# Altium schematic symbol library ic.SchLib: 105 symbols (part 2 of 2)
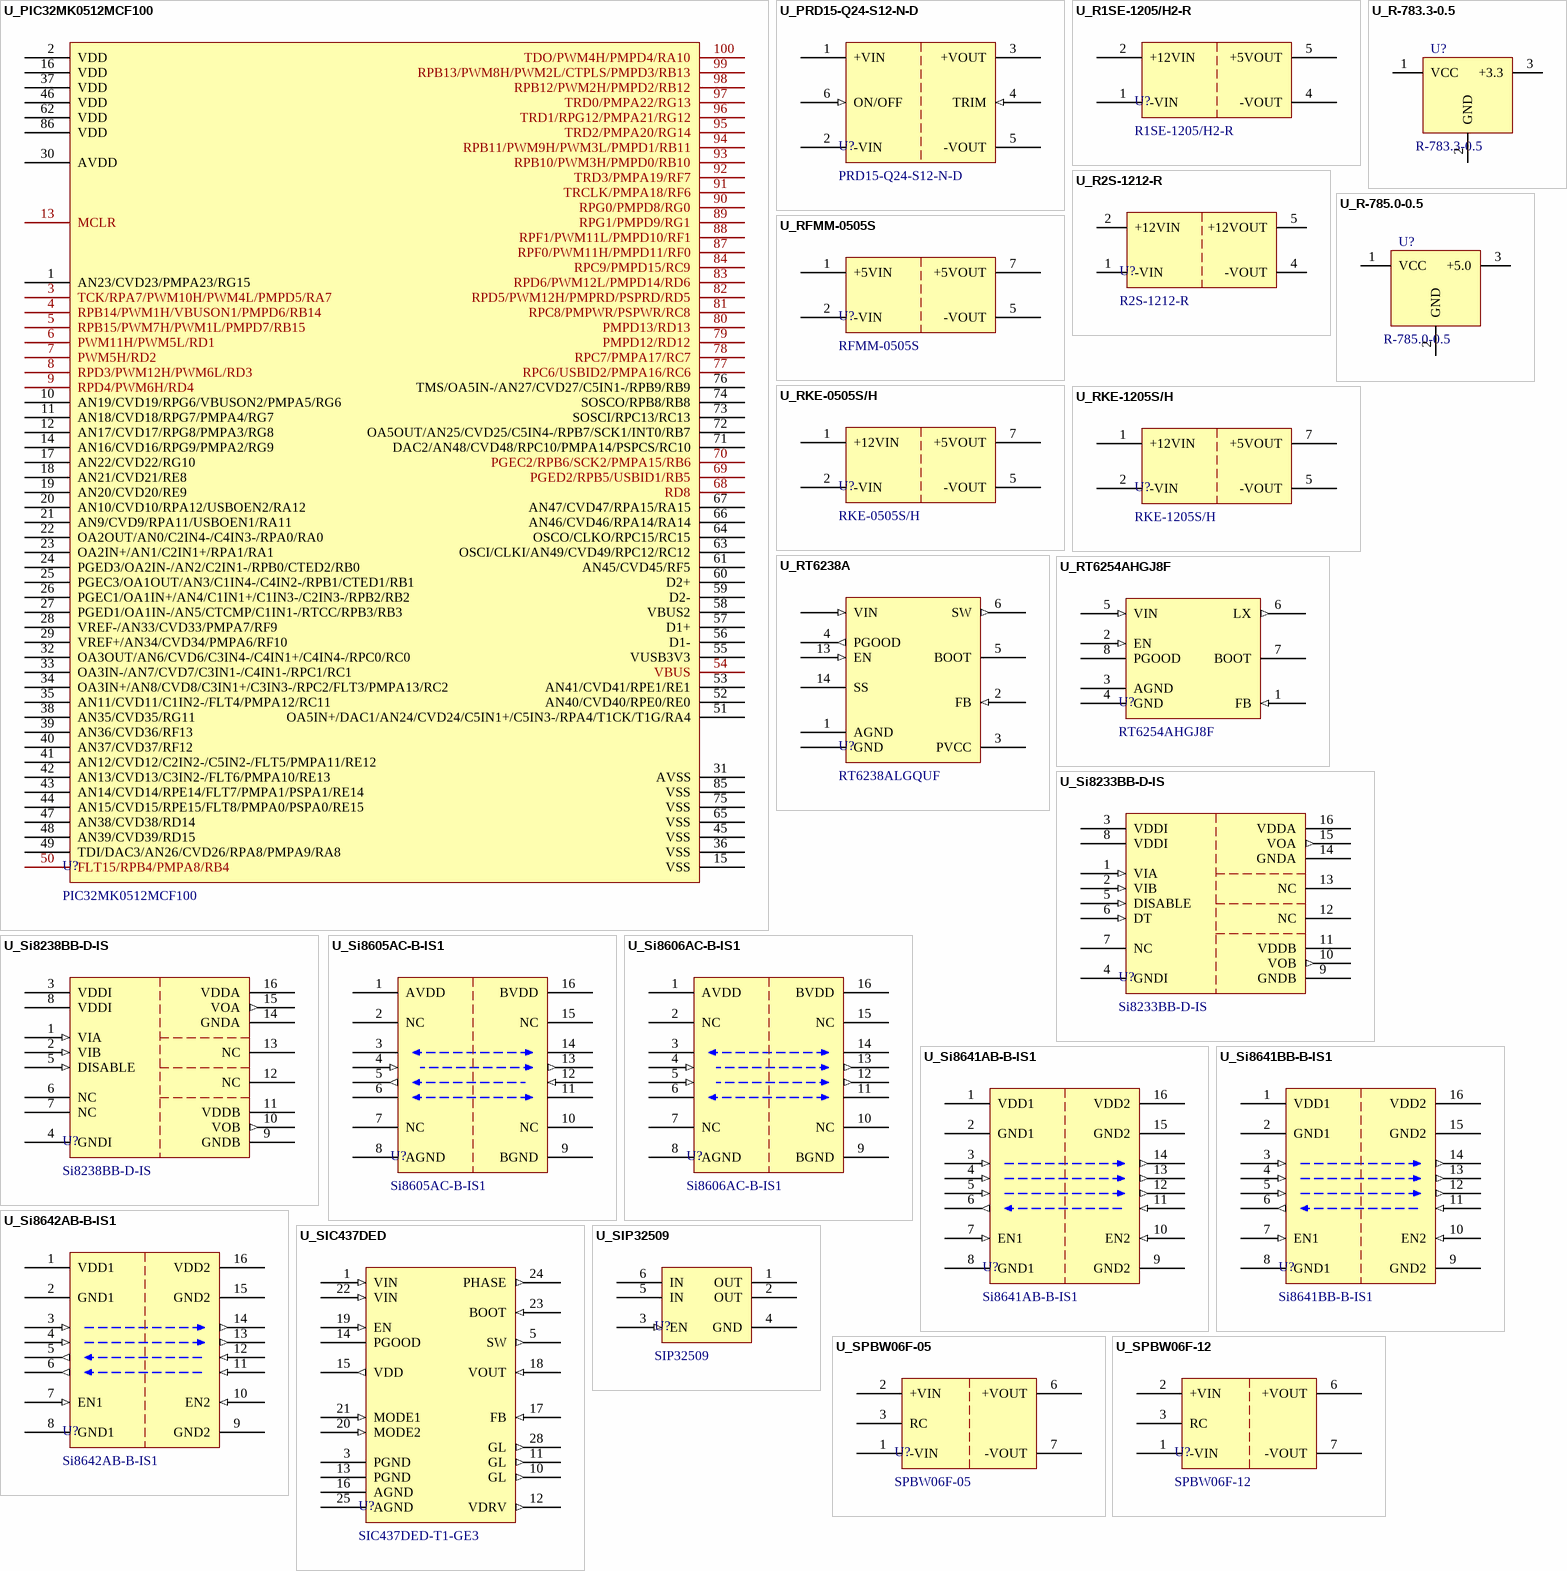
[diagram p6: symbols U_PIC32MK0512MCF100 to U_SPBW06F-12]

## U_RKE-1205S/H
designator U?, comment RKE-1205S/H
Isolated Module DC DC Converter 1 Output 5V 200mA 10.8V - 13.2V Input; Manufacturer: Recom; Manufacturer Part Number: RKE-1205S/H; Supplier 1: Digi-Key; Supplier Part Number 1: 945-2636-5-ND
footprint SIP-7_DCDC_Module_(1,2,5,7) (Only pins 1,2,5,7 present)
pins: 1 +12VIN (power), 2 -VIN (power), 5 -VOUT (power), 7 +5VOUT (power)

## U_RT6238A
designator U?, comment RT6238ALGQUF
Buck Switching Regulator IC Positive Adjustable 0.7V 1 Output 8A 14-UFQFN; Supplier 1: Digi-Key; Supplier Part Number 1: RT6238ALGQUFDKR-ND
footprint UFQFN-14
pins: 1 AGND (power), 2 FB (in), 3 PVCC (power), 4 PGOOD (out), 5 BOOT, 6 SW (out), 7 VIN (in), 8 VIN (in), 9 GND (power), 10 GND (power), 11 GND (power), 12 GND (power), 13 EN (in), 14 SS

## U_RT6254AHGJ8F
designator U?, comment RT6254AHGJ8F
Buck Switching Regulator IC Positive Adjustable 0.6V 1 Output 4A SOT-23-8 Thin, TSOT-23-8; Supplier 1: Digi-Key; Supplier Part Number 1: RT6254AHGJ8FCT-ND
footprint SOT23-8 (SOT23, 0.65mm pitch, 8 pins)
pins: 1 FB (in), 2 EN (in), 3 AGND (power), 4 GND (power), 5 VIN (in), 6 LX (out), 7 BOOT, 8 PGOOD (oc)

## U_Si8233BB-D-IS
designator U?, comment Si8233BB-D-IS
4A Gate Driver Capacitive Coupling 2500Vrms 2 Channel 16-SOIC; Manufacturer: Silicon Labs; Number of Outputs: 2; Pulse Width Distortion (PWD): 5.6ns; Max Power Dissipation: 1.2W; Min Supply Voltage: 4.5V; Turn-On Delay Time: 60ns; Low Level Output Current: 2A; Fall Time: 12ns; Max Supply Voltage: 5.5V; Output Current: 6mA; Operating Supply Current: 3.5mA; Number of Drivers: 2; Manufacturer Part Number: SI8233BB-D-IS; Min Operating Temperature: -40°C; Number of Channels: 2; High Level Output Current: 4A; Max Operating Temperature: 125°C; Rise Time: 12ns; Max Output Current: 4A; Propagation Delay: 60ns; Turn-Off Delay Time: 60ns; Supplier 1: Digi-Key; Supplier Part Number 1: SI8233BB-D-IS-ND
footprint SOIC-16_W300 (Wide SOIC)
pins: 1 VIA (in), 2 VIB (in), 3 VDDI (power), 4 GNDI (power), 5 DISABLE (in), 6 DT (in), 7 NC, 8 VDDI (power), 9 GNDB (power), 10 VOB (out), 11 VDDB (power), 12 NC, 13 NC, 14 GNDA (power), 15 VOA (out), 16 VDDA (power)

## U_Si8238BB-D-IS
designator U?, comment Si8238BB-D-IS
4A Gate Driver Capacitive Coupling 2500Vrms 2 Channel 16-SOIC; Manufacturer: Silicon Labs; Number of Outputs: 2; Pulse Width Distortion (PWD): 5.6ns; Max Power Dissipation: 1.2W; Min Supply Voltage: 2.7V; Turn-On Delay Time: 60ns; Low Level Output Current: 2A; Fall Time: 12ns; Max Supply Voltage: 5.5V; Output Current: 6mA; Operating Supply Current: 3.5mA; Number of Drivers: 2; Manufacturer Part Number: SI8238BB-D-IS; Min Operating Temperature: -40°C; Number of Channels: 2; High Level Output Current: 4A; Max Operating Temperature: 125°C; Rise Time: 12ns; Max Output Current: 4A; Propagation Delay: 60ns; Turn-Off Delay Time: 60ns; Supplier 1: Digi-Key; Supplier Part Number 1: SI8238BB-D-IS1-ND
footprint SOIC-16 (SOIC 16 pin)
pins: 1 VIA (in), 2 VIB (in), 3 VDDI (power), 4 GNDI (power), 5 DISABLE (in), 6 NC, 7 NC, 8 VDDI (power), 9 GNDB (power), 10 VOB (out), 11 VDDB (power), 12 NC, 13 NC, 14 GNDA (power), 15 VOA (out), 16 VDDA (power)

## U_Si8605AC-B-IS1
designator U?, comment Si8605AC-B-IS1
I²C Digital Isolator 3750Vrms 4 Channel 35kV/µs CMTI 16-SOIC (0.154", 3.90mm Width); Manufacturer: Silicon Labs; Data Rate: 1.7Mbps; Propagation Delay: 55ns; Channel Type: Bidirectional; Polarity: Unidirectional,Bidirectional; Max Power Dissipation: 275mW; Min Supply Voltage: 3V; Max Supply Voltage: 5.5V; Rise Time: 4ns; Operating Supply Current: 7.2mA; Max Input Current: 10.5mA; Supplier 1: Digi-Key; Manufacturer Part Number: SI8605AC-B-IS1; Min Operating Temperature: -40°C; Max Operating Temperature: 125°C; Supplier Part Number 1: 336-2052-5-ND
footprint SOIC-16 (SOIC 16 pin)
pins: 1 AVDD (power), 2 NC, 3 ASDA (oc), 4 ADIN (in), 5 ADOUT (out), 6 ASCL (oc), 7 NC, 8 AGND (power), 9 BGND (power), 10 NC, 11 BSCL (oc), 12 BDIN (in), 13 BDOUT (out), 14 BSDA (oc), 15 NC, 16 BVDD (power)

## U_Si8606AC-B-IS1
designator U?, comment Si8606AC-B-IS1
I²C Digital Isolator 3750Vrms 4 Channel  35kV/µs CMTI 16-SOIC (0.154", 3.90mm Width); Manufacturer: Silicon Labs; Data Rate: 1.7Mbps; Propagation Delay: 55ns; Channel Type: Bidirectional; Polarity: Unidirectional,Bidirectional; Max Power Dissipation: 275mW; Min Supply Voltage: 3V; Max Supply Voltage: 5.5V; Rise Time: 4ns; Operating Supply Current: 7.2mA; Max Input Current: 10.5mA; Manufacturer Part Number: SI8606AC-B-IS1; Min Operating Temperature: -40°C; Max Operating Temperature: 125°C; Supplier 1: Digi-Key; Supplier Part Number 1: 336-2054-5-ND
footprint SOIC-16 (SOIC 16 pin)
pins: 1 AVDD (power), 2 NC, 3 ASDA (oc), 4 ADIN1 (in), 5 ADIN2 (in), 6 ASCL (oc), 7 NC, 8 AGND (power), 9 BGND (power), 10 NC, 11 BSCL (oc), 12 BDOUT2 (out), 13 BDOUT1 (out), 14 BSDA (oc), 15 NC, 16 BVDD (power)

## U_Si8641AB-B-IS1
designator U?, comment Si8641AB-B-IS1
General Purpose Digital Isolator 2500Vrms 4 Channel 1Mbps 35kV/µs CMTI 16-SOIC (0.154", 3.90mm Width); Manufacturer: Silicon Labs; Max Power Dissipation: 275mW; Min Supply Voltage: 2.7V; Max Supply Voltage: 5.5V; Propagation Delay: 35ns; Channel Type: Unidirectional; Rise Time: 4ns; Max Input Current: 7.8mA; Operating Supply Current: 3.5mA; Pulse Width Distortion (PWD): 25ns; Number of Channels: 4; Supplier 1: Digi-Key; Supplier Part Number 1: SI8641AB-B-IS1-ND; Min Operating Temperature: -40°C; Max Operating Temperature: 125°C; Data Rate: 1Mbps; Manufacturer Part Number: SI8641AB-B-IS1
footprint SOIC-16 (SOIC 16 pin)
pins: 1 VDD1 (power), 2 GND1 (power), 3 A1 (in), 4 A2 (in), 5 A3 (in), 6 A4 (out), 7 EN1 (in), 8 GND1 (power), 9 GND2 (power), 10 EN2 (in), 11 B4 (in), 12 B3 (out), 13 B2 (out), 14 B1 (out), 15 GND2 (power), 16 VDD2 (power)

## U_Si8641BB-B-IS1
designator U?, comment Si8641BB-B-IS1
General Purpose Digital Isolator 2500Vrms 4 Channel 150Mbps 35kV/µs CMTI 16-SOIC (0.154", 3.90mm Width); Manufacturer: Silicon Labs; Max Power Dissipation: 275mW; Min Supply Voltage: 2.7V; Max Supply Voltage: 5.5V; Propagation Delay: 13ns; Channel Type: Unidirectional; Rise Time: 2.5ns; Max Input Current: 7.8mA; Operating Supply Current: 3.5mA; Pulse Width Distortion (PWD): 4.5ns; Number of Channels: 4; Min Operating Temperature: -40°C; Max Operating Temperature: 125°C; Data Rate: 150Mbps; Manufacturer Part Number: SI8641BB-B-IS1; Supplier 1: Digi-Key; Supplier Part Number 1: 336-2566-ND
footprint SOIC-16 (SOIC 16 pin)
pins: 1 VDD1 (power), 2 GND1 (power), 3 A1 (in), 4 A2 (in), 5 A3 (in), 6 A4 (out), 7 EN1 (in), 8 GND1 (power), 9 GND2 (power), 10 EN2 (in), 11 B4 (in), 12 B3 (out), 13 B2 (out), 14 B1 (out), 15 GND2 (power), 16 VDD2 (power)

## U_Si8642AB-B-IS1
designator U?, comment Si8642AB-B-IS1
General Purpose Digital Isolator 2500Vrms 4 Channel 1Mbps 35kV/µs CMTI 16-SOIC (0.154", 3.90mm Width); Manufacturer: Silicon Labs; Max Supply Voltage: 5.5V; Channel Type: Unidirectional; Pulse Width Distortion (PWD): 25ns; Max Power Dissipation: 275mW; Min Supply Voltage: 2.7V; Number of Channels: 4; Propagation Delay: 35ns; Max Input Current: 6.6mA; Rise Time: 4ns; Operating Supply Current: 3.6mA; Supplier 1: Digi-Key; Supplier Part Number 1: SI8642AB-B-IS1-ND; Max Operating Temperature: 125°C; Min Operating Temperature: -40°C; Data Rate: 1Mbps; Manufacturer Part Number: Si8642AB-B-IS1
footprint SOIC-16 (SOIC 16 pin)
pins: 1 VDD1 (power), 2 GND1 (power), 3 A1 (in), 4 A2 (in), 5 A3 (out), 6 A4 (out), 7 EN1 (in), 8 GND1 (power), 9 GND2 (power), 10 EN2 (in), 11 B4 (in), 12 B3 (in), 13 B2 (out), 14 B1 (out), 15 GND2 (power), 16 VDD2 (power)

## U_SIC437DED
designator U?, comment SIC437DED-T1-GE3
Buck Switching Regulator IC Positive Adjustable 0.6V 1 Output 12A 24-PowerWFQFN; Manufacturer: Vishay; Supplier 1: Digi-Key; Supplier 2: Mouser; Supplier Part Number 1: SIC437DED-T1-GE3CT-ND; Supplier Part Number 2: 78-SIC437DED-T1-GE3; Manufacturer Part Number: SIC437DED-T1-GE3
footprint U_MLP44-24L (Vishay Siliconix SiC437, U_SiC438 series DCDC converters)
pins: 1 VIN (in), 3 PGND (power), 5 SW (out), 10 GL (out), 11 GL (out), 12 VDRV (out), 13 PGND (power), 14 PGOOD (oc), 15 VDD (out), 16 AGND (power), 17 FB (in), 18 VOUT (in), 19 EN (in), 20 MODE2 (in), 21 MODE1 (in), 22 VIN (in), 23 BOOT (in), 24 PHASE (out), 25 AGND (power), 28 GL (out)

## U_SIP32509
designator U?, comment SIP32509
IC LOAD SWITCH; Supplier 1: Digi-Key; Supplier Part Number 1: SIP32509DT-T1-GE3DKR-ND
footprint SOT23-6 (Footprint not found)
pins: 1 OUT (power), 2 OUT (power), 3 EN (in), 4 GND (power), 5 IN (power), 6 IN (power)

## U_SPBW06F-05
designator U?, comment SPBW06F-05
Isolated Module DC DC Converter 1 Output 5V 1.2A 9V - 36V Input; Manufacturer: Mean Well; Voltage - Isolation: 1500V; Efficiency: 85%; Manufacturer Part Number: SPBW06F-05; Voltage - Input (Min): 9V; Voltage - Input (Max): 36V; Voltage - Output: 5V; Current - Output (Max): 1.2A; Operating Temperature: -40°C ~ 85°C; Supplier 1: Digi-Key; Supplier Part Number 1: 1866-4810-ND
footprint SIP-8_DCDC_Module
pins: 1 -VIN (power), 2 +VIN (power), 3 RC, 6 +VOUT (power), 7 -VOUT (power)

## U_SPBW06F-12
designator U?, comment SPBW06F-12
Isolated Module DC DC Converter 1 Output 12V 500mA 9V - 36V Input; Manufacturer: Mean Well; Voltage - Isolation: 1500V; Efficiency: 88%; Manufacturer Part Number: SPBW06F-12; Supplier 1: Digi-Key; Supplier Part Number 1: 1866-4811-ND; Voltage - Input (Min): 9V; Voltage - Input (Max): 36V; Voltage - Output: 12V; Current - Output (Max): 500mA; Operating Temperature: -40°C ~ 85°C
footprint SIP-8_DCDC_Module
pins: 1 -VIN (power), 2 +VIN (power), 3 RC, 6 +VOUT (power), 7 -VOUT (power)

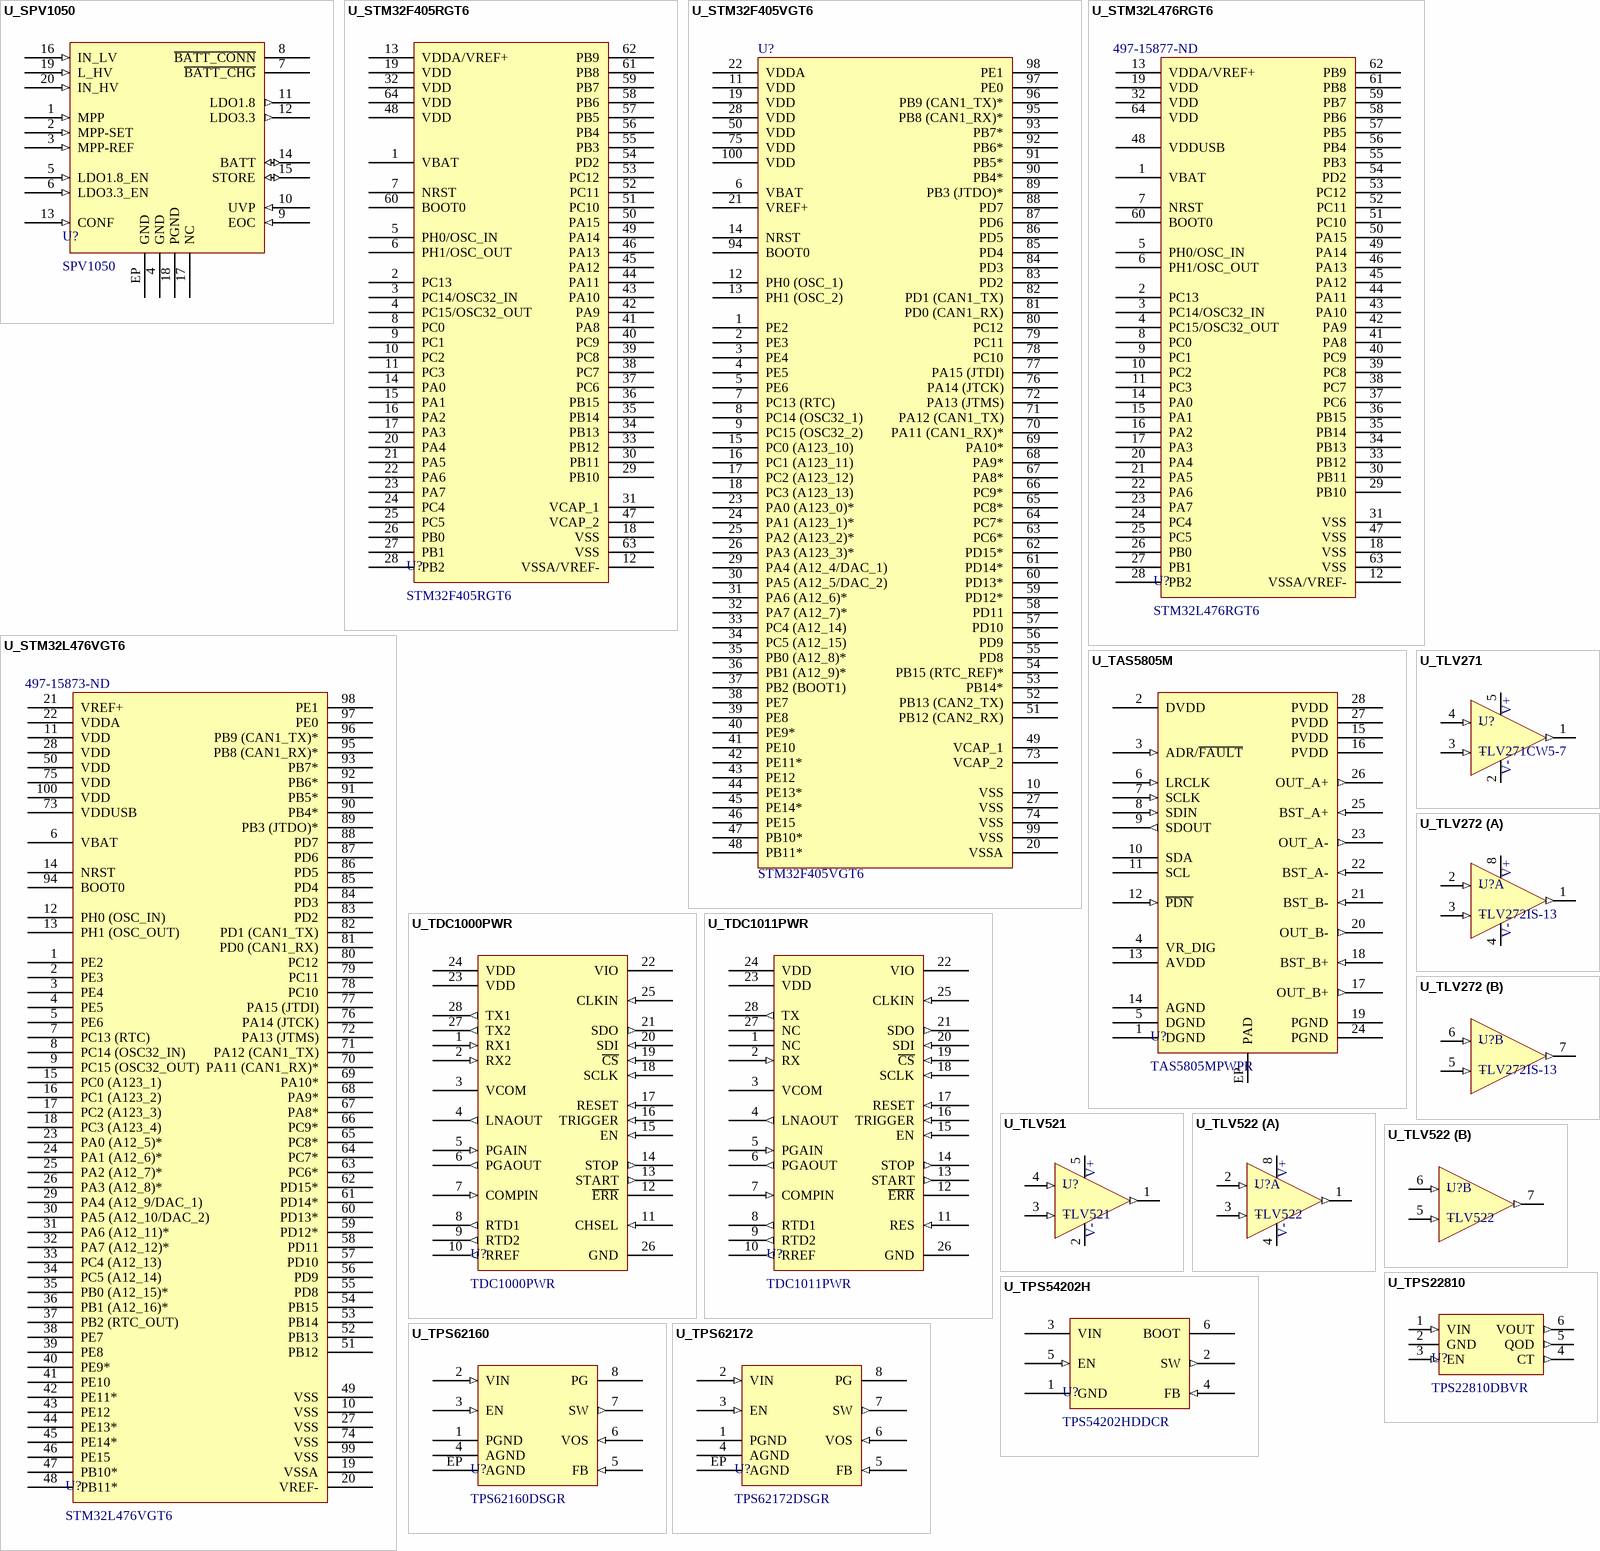
[diagram p4: symbols U_SPV1050 to U_TPS62172]

## U_SPV1050
designator U?, comment SPV1050
Charger IC Multi-Chemistry 20-VFQFPN (3x3); Manufacturer: STMicroelectronics; Manufacturer Part Number: SPV1050TTR; Max Charge Current: 70mA; Max Supply Voltage: 18V; Battery Pack Voltage: 5.3V; Max Operating Temperature: 85°C; Min Operating Temperature: -40°C; Supplier 1: Digi-Key; Supplier 2: Mouser; Supplier Part Number 1: 497-15978-1-ND; Supplier Part Number 2: 511-SPV1050TTR
footprint VFQFN-20-EP_3x3mm (20 pin QFN, 0.65mm pitch)
pins: 1 MPP (in), 2 MPP-SET (in), 3 MPP-REF (in), 4 GND (power), 5 LDO1.8_EN (in), 6 LDO3.3_EN (in), 7 ~{BATT_CHG} (oc), 8 ~{BATT_CONN} (oc), 9 EOC (in), 10 UVP (in), 11 LDO1.8 (out), 12 LDO3.3 (out), 13 CONF (in), 14 BATT (io), 15 STORE (io), 16 IN_LV (in), 17 NC, 18 PGND (power), 19 L_HV (in), 20 IN_HV (in), EP GND (power)

## U_STM32F405RGT6
designator U?, comment STM32F405RGT6
IC MCU 32BIT 1MB FLASH 64LQFP; Manufacturer: STMicroelectronics; SVP Creator: Mitchell Rogalsky; Manufacturer PN: STM32F405RGT6; Supplier: Digikey; Supplier PN: 497-11767-ND; Supplier 1: Digi-Key; Supplier Part Number 1: 497-11767-ND
footprint LQFP-64 (TSQFP, 64-Leads, Body 12.0x12.0mm (max), Pitch 0.50mm, IPC Medium Density)
pins: 1 VBAT, 2 PC13, 3 PC14/OSC32_IN, 4 PC15/OSC32_OUT, 5 PH0/OSC_IN, 6 PH1/OSC_OUT, 7 NRST, 8 PC0, 9 PC1, 10 PC2, 11 PC3, 12 VSSA/VREF-, 13 VDDA/VREF+, 14 PA0, 15 PA1, 16 PA2, 17 PA3, 18 VSS, 19 VDD, 20 PA4, 21 PA5, 22 PA6, 23 PA7, 24 PC4, 25 PC5, 26 PB0, 27 PB1, 28 PB2, 29 PB10, 30 PB11, 31 VCAP_1, 32 VDD, 33 PB12, 34 PB13, 35 PB14, 36 PB15, 37 PC6, 38 PC7, 39 PC8, 40 PC9, 41 PA8, 42 PA9, 43 PA10, 44 PA11, 45 PA12, 46 PA13, 47 VCAP_2, 48 VDD, 49 PA14, 50 PA15, 51 PC10, 52 PC11, 53 PC12, 54 PD2, 55 PB3, 56 PB4, 57 PB5, 58 PB6, 59 PB7, 60 BOOT0, 61 PB8, 62 PB9, 63 VSS, 64 VDD

## U_STM32F405VGT6
designator U?, comment STM32F405VGT6
IC MCU 32BIT 1MB FLASH 100LQFP; Manufacturer: STMicroelectronics; Part Number: STM32F405VGT6; Supplier 1: Digi-Key; Supplier Part Number 1: 497-11910-ND
footprint LQFP-100 (100 pin LQFP, 0.5mm pitch)
pins: 1 PE2, 2 PE3, 3 PE4, 4 PE5, 5 PE6, 6 VBAT, 7 PC13 (RTC), 8 PC14 (OSC32_1), 9 PC15 (OSC32_2), 10 VSS, 11 VDD, 12 PH0 (OSC_1), 13 PH1 (OSC_2), 14 NRST, 15 PC0 (A123_10), 16 PC1 (A123_11), 17 PC2 (A123_12), 18 PC3 (A123_13), 19 VDD, 20 VSSA, 21 VREF+, 22 VDDA, 23 PA0 (A123_0)*, 24 PA1 (A123_1)*, 25 PA2 (A123_2)*, 26 PA3 (A123_3)*, 27 VSS, 28 VDD, 29 PA4 (A12_4/DAC_1), 30 PA5 (A12_5/DAC_2), 31 PA6 (A12_6)*, 32 PA7 (A12_7)*, 33 PC4 (A12_14), 34 PC5 (A12_15), 35 PB0 (A12_8)*, 36 PB1 (A12_9)*, 37 PB2 (BOOT1), 38 PE7, 39 PE8, 40 PE9*, 41 PE10, 42 PE11*, 43 PE12, 44 PE13*, 45 PE14*, 46 PE15, 47 PB10*, 48 PB11*, 49 VCAP_1, 50 VDD, 51 PB12 (CAN2_RX), 52 PB13 (CAN2_TX), 53 PB14*, 54 PB15 (RTC_REF)*, 55 PD8, 56 PD9, 57 PD10, 58 PD11, 59 PD12*, 60 PD13*, 61 PD14*, 62 PD15*, 63 PC6*, 64 PC7*, 65 PC8*, 66 PC9*, 67 PA8*, 68 PA9*, 69 PA10*, 70 PA11 (CAN1_RX)*, 71 PA12 (CAN1_TX), 72 PA13 (JTMS), 73 VCAP_2, 74 VSS, 75 VDD, 76 PA14 (JTCK), 77 PA15 (JTDI), 78 PC10, 79 PC11, 80 PC12, 81 PD0 (CAN1_RX), 82 PD1 (CAN1_TX), 83 PD2, 84 PD3, 85 PD4, 86 PD5, 87 PD6, 88 PD7, 89 PB3 (JTDO)*, 90 PB4*, 91 PB5*, 92 PB6*, 93 PB7*, 94 BOOT0, 95 PB8 (CAN1_RX)*, 96 PB9 (CAN1_TX)*, 97 PE0, 98 PE1, 99 VSS, 100 VDD

## U_STM32L476RGT6
designator U?, comment STM32L476RGT6  Supplier Part Number 1: 497-15877-ND
IC MCU 32BIT 1MB FLASH 64LQFP; Manufacturer: STMicroelectronics; Manufacturer PN: STM32L405RGT6; SVP Creator: Spencer Berglund; Supplier 1: Digi-Key
footprint LQFP-64 (TSQFP, 64-Leads, Body 12.0x12.0mm (max), Pitch 0.50mm, IPC Medium Density)
pins: 1 VBAT, 2 PC13, 3 PC14/OSC32_IN, 4 PC15/OSC32_OUT, 5 PH0/OSC_IN, 6 PH1/OSC_OUT, 7 NRST, 8 PC0, 9 PC1, 10 PC2, 11 PC3, 12 VSSA/VREF-, 13 VDDA/VREF+, 14 PA0, 15 PA1, 16 PA2, 17 PA3, 18 VSS, 19 VDD, 20 PA4, 21 PA5, 22 PA6, 23 PA7, 24 PC4, 25 PC5, 26 PB0, 27 PB1, 28 PB2, 29 PB10, 30 PB11, 31 VSS, 32 VDD, 33 PB12, 34 PB13, 35 PB14, 36 PB15, 37 PC6, 38 PC7, 39 PC8, 40 PC9, 41 PA8, 42 PA9, 43 PA10, 44 PA11, 45 PA12, 46 PA13, 47 VSS, 48 VDDUSB, 49 PA14, 50 PA15, 51 PC10, 52 PC11, 53 PC12, 54 PD2, 55 PB3, 56 PB4, 57 PB5, 58 PB6, 59 PB7, 60 BOOT0, 61 PB8, 62 PB9, 63 VSS, 64 VDD

## U_STM32L476VGT6
designator U?, comment STM32L476VGT6  Supplier Part Number 1: 497-15873-ND
IC MCU 32BIT 1MB FLASH 100LQFP; Manufacturer: STMicroelectronics; SVP Creator: Spencer Berglund; Manufacturer PN: STM32L476VGT6; Supplier 1: Digi-Key
footprint LQFP-100 (100 pin LQFP, 0.5mm pitch)
pins: 1 PE2, 2 PE3, 3 PE4, 4 PE5, 5 PE6, 6 VBAT, 7 PC13 (RTC), 8 PC14 (OSC32_IN), 9 PC15 (OSC32_OUT), 10 VSS, 11 VDD, 12 PH0 (OSC_IN), 13 PH1 (OSC_OUT), 14 NRST, 15 PC0 (A123_1), 16 PC1 (A123_2), 17 PC2 (A123_3), 18 PC3 (A123_4), 19 VSSA, 20 VREF-, 21 VREF+, 22 VDDA, 23 PA0 (A12_5)*, 24 PA1 (A12_6)*, 25 PA2 (A12_7)*, 26 PA3 (A12_8)*, 27 VSS, 28 VDD, 29 PA4 (A12_9/DAC_1), 30 PA5 (A12_10/DAC_2), 31 PA6 (A12_11)*, 32 PA7 (A12_12)*, 33 PC4 (A12_13), 34 PC5 (A12_14), 35 PB0 (A12_15)*, 36 PB1 (A12_16)*, 37 PB2 (RTC_OUT), 38 PE7, 39 PE8, 40 PE9*, 41 PE10, 42 PE11*, 43 PE12, 44 PE13*, 45 PE14*, 46 PE15, 47 PB10*, 48 PB11*, 49 VSS, 50 VDD, 51 PB12, 52 PB13, 53 PB14, 54 PB15, 55 PD8, 56 PD9, 57 PD10, 58 PD11, 59 PD12*, 60 PD13*, 61 PD14*, 62 PD15*, 63 PC6*, 64 PC7*, 65 PC8*, 66 PC9*, 67 PA8*, 68 PA9*, 69 PA10*, 70 PA11 (CAN1_RX)*, 71 PA12 (CAN1_TX), 72 PA13 (JTMS), 73 VDDUSB, 74 VSS, 75 VDD, 76 PA14 (JTCK), 77 PA15 (JTDI), 78 PC10, 79 PC11, 80 PC12, 81 PD0 (CAN1_RX), 82 PD1 (CAN1_TX), 83 PD2, 84 PD3, 85 PD4, 86 PD5, 87 PD6, 88 PD7, 89 PB3 (JTDO)*, 90 PB4*, 91 PB5*, 92 PB6*, 93 PB7*, 94 BOOT0, 95 PB8 (CAN1_RX)*, 96 PB9 (CAN1_TX)*, 97 PE0, 98 PE1, 99 VSS, 100 VDD

## U_TAS5805M
designator U?, comment TAS5805MPWPR
Amplifier IC 1-Channel (Mono) or 2-Channel (Stereo) Class D 28-HTSSOP; Manufacturer: Texas Instruments; Supplier 1: Digi-Key; Supplier 2: Arrow; Supplier Part Number 1: 296-51627-1-ND; Supplier Part Number 2: TAS5805MPWPR; Manufacturer Part Number: TAS5805MPWPR
footprint TSSOP-28-EP (0.65mm pitch TSSOP with exposed pad)
pins: 1 DGND (power), 2 DVDD (power), 3 ADR/~{FAULT} (in), 4 VR_DIG (power), 5 DGND (power), 6 LRCLK (in), 7 SCLK (in), 8 SDIN (in), 9 SDOUT (out), 10 SDA (oc), 11 SCL (oc), 12 ~{PDN} (in), 13 AVDD (power), 14 AGND (power), 15 PVDD (power), 16 PVDD (power), 17 OUT_B+ (out), 18 BST_B+ (in), 19 PGND (power), 20 OUT_B- (out), 21 BST_B- (in), 22 BST_A- (in), 23 OUT_A- (out), 24 PGND (power), 25 BST_A+ (in), 26 OUT_A+ (out), 27 PVDD (power), 28 PVDD (power), EP PAD (power)

## U_TDC1000PWR
designator U?, comment TDC1000PWR
IC AFE ULTRA SENSING 28TSSOP; Manufacturer: Texas Instruments; Interface: SPI; Max Supply Voltage: 5.5V; Min Supply Voltage: 2.7V; Operating Supply Current: 2.8mA; Manufacturer Part Number: TDC1000PWR; Max Operating Temperature: 125°C; Min Operating Temperature: -40°C; Supplier 1: Digi-Key; Supplier 2: Mouser; Supplier Part Number 1: 296-38823-1-ND; Supplier Part Number 2: 595-TDC1000PWR
footprint TSSOP-28 (0.65mm pitch TSSOP)
pins: 1 RX1 (in), 2 RX2 (in), 3 VCOM (power), 4 LNAOUT (out), 5 PGAIN (in), 6 PGAOUT (out), 7 COMPIN (in), 8 RTD1 (out), 9 RTD2 (out), 10 RREF (out), 11 CHSEL (in), 12 ~{ERR} (oc), 13 START (out), 14 STOP (out), 15 EN (in), 16 TRIGGER (in), 17 RESET (in), 18 SCLK (in), 19 ~{CS} (in), 20 SDI (in), 21 SDO (out), 22 VIO (power), 23 VDD (power), 24 VDD (power), 25 CLKIN (in), 26 GND (power), 27 TX2 (out), 28 TX1 (out)

## U_TDC1011PWR
designator U?, comment TDC1011PWR
IC AFE ULTRA SENSING 28TSSOP; Manufacturer: Texas Instruments; Interface: SPI; Max Supply Voltage: 5.5V; Min Supply Voltage: 2.7V; Operating Supply Current: 2.8mA; Supplier 1: Digi-Key; Supplier 2: Mouser; Supplier Part Number 1: 296-42461-1-ND; Supplier Part Number 2: 595-TDC1011PWR; Manufacturer Part Number: TDC1011PWR; Max Operating Temperature: 125°C; Min Operating Temperature: -40°C
footprint TSSOP-28 (0.65mm pitch TSSOP)
pins: 1 NC, 2 RX (in), 3 VCOM (power), 4 LNAOUT (out), 5 PGAIN (in), 6 PGAOUT (out), 7 COMPIN (in), 8 RTD1 (out), 9 RTD2 (out), 10 RREF (out), 11 RES (in), 12 ~{ERR} (oc), 13 START (out), 14 STOP (out), 15 EN (in), 16 TRIGGER (in), 17 RESET (in), 18 SCLK (in), 19 ~{CS} (in), 20 SDI (in), 21 SDO (out), 22 VIO (power), 23 VDD (power), 24 VDD (power), 25 CLKIN (in), 26 GND (power), 27 NC, 28 TX (out)

## U_TLV271
designator U?, comment TLV271CW5-7
CMOS Amplifier 1 Circuit Rail-to-Rail SOT-25; Manufacturer: Diodes; Output Current per Channel: 8mA; Power Dissipation: 220mW; Min Dual Supply Voltage: 1.35V; Operating Supply Current: 550uA; Common Mode Rejection Ratio: 65dB; Voltage Gain: 110dB; Slew Rate: 2V/µs; Input Bias Current: 1pA; Power Supply Rejection Ratio (PSRR): 70dB; Input Offset Voltage (Vos): 500uV; Unity Gain Bandwidth Product: 1.9MHz; Max Supply Voltage: 16V; Max Frequency: 10kHz; Min Supply Voltage: 2.7V; Supplier 1: Digi-Key; Supplier Part Number 1: TLV271CW5-7DIDKR-ND; Width: 1.7mm; Max Operating Temperature: 70°C; Min Operating Temperature: 0°C; Manufacturer Part Number: TLV271CW5-7; Gain Bandwidth Product: 1.9MHz
footprint SOT23-5 (SOT23-5 (SOT-25) 0.95mm pitch, 5 pins)
pins: 1 OUT (out), 2 GND (power), 3 + (in), 4 - (in), 5 VDD (power)
text: V+; V-

## U_TLV272
designator U?, comment TLV272IS-13
CMOS Amplifier 2 Circuit Rail-to-Rail 8-SO; Manufacturer: Diodes; Output Current per Channel: 8mA; Power Dissipation: 220mW; Min Dual Supply Voltage: 1.35V; Operating Supply Current: 550uA; Common Mode Rejection Ratio: 65dB; Voltage Gain: 110dB; Slew Rate: 2V/µs; Input Bias Current: 1pA; Power Supply Rejection Ratio (PSRR): 70dB; Input Offset Voltage (Vos): 500uV; Unity Gain Bandwidth Product: 1.9MHz; Max Supply Voltage: 16V; Max Frequency: 10kHz; Min Supply Voltage: 2.7V; Max Operating Temperature: 85°C; Min Operating Temperature: -40°C; Manufacturer Part Number: TLV272IS-13; Gain Bandwidth Product: 1.9MHz; Supplier 1: Digi-Key; Supplier Part Number 1: TLV272IS-13DIDKR-ND
footprint SOIC-8 (SOIC, 8-Leads, Body 4.9x3.9mm (max), Pitch 1.27mm, IPC Medium Density)
part A pins: 1 OUT (out), 2 - (in), 3 + (in), 4 GND (power), 8 VDD (power)
part B pins: 5 + (in), 6 - (in), 7 OUT (out)
part A text: V+; V-

## U_TLV521
designator U?, comment TLV521
CMOS Amplifier 1 Circuit Rail-to-Rail SC-70-5; Manufacturer Part Number: TLV521DCKR; Manufacturer: Texas Instruments; Output Current per Channel: 12mA; Operating Supply Current: 350nA; Slew Rate: 0.0025V/µs; Input Bias Current: 1pA; Input Offset Voltage (Vos): 1mV; Max Supply Voltage: 5.5V; Min Supply Voltage: 1.7V; Gain Bandwidth Product: 6kHz; Max Operating Temperature: 125°C; Min Operating Temperature: -40°C; Supplier 1: Digi-Key; Supplier 2: Mouser; Supplier Part Number 1: 296-47441-1-ND; Supplier Part Number 2: 595-TLV521DCKR
footprint SC70-5 (5 pin SC70, 0.65mm pitch)
pins: 1 OUT (out), 2 GND (power), 3 + (in), 4 - (in), 5 VDD (power)
text: V+; V-

## U_TLV522
designator U?, comment TLV522
CMOS Amplifier 2 Circuit Rail-to-Rail 8-VSSOP; Manufacturer Part Number: TLV522DGKR; Manufacturer: Texas Instruments; Output Current per Channel: 5mA; Operating Supply Current: 500nA; Slew Rate: 0.0037V/µs; Input Bias Current: 1pA; Input Offset Voltage (Vos): 1mV; Max Supply Voltage: 5.5V; Min Supply Voltage: 1.7V; Gain Bandwidth Product: 8kHz; Max Operating Temperature: 125°C; Min Operating Temperature: -40°C; Supplier 1: Digi-Key; Supplier Part Number 2: 595-TLV522DGKT; Supplier Part Number 1: 296-44391-1-ND; Supplier 2: Mouser
footprint MSOP-8 (0.65mm pitch MSOP)
part A pins: 1 OUT (out), 2 - (in), 3 + (in), 4 GND (power), 8 VDD (power)
part B pins: 5 + (in), 6 - (in), 7 OUT (out)
part A text: V+; V-

## U_TPS22810
designator U?, comment TPS22810DBVR
Power Switch/Driver 1:1 N-Channel 2A SOT-23-6; Manufacturer: Texas Instruments; Number of Channels: 1; Voltage - Load: 2.7 V ~ 18 V; Rds On (Typ): 79 mOhm; Supplier 1: Digi-Key; Supplier Part Number 1: 296-45297-6-ND; Manufacturer Part Number: TPS22810DBVR; Min Operating Temperature: -40°C; Max Operating Temperature: 105°C; Current - Output (Max): 2A
footprint SOT23-6 (SOT23, 0.95mm pitch, 6 pins)
pins: 1 VIN (in), 2 GND (power), 3 EN (in), 4 CT (out), 5 QOD (out), 6 VOUT (out)

## U_TPS54202H
designator U?, comment TPS54202HDDCR
Buck Switching Regulator IC Positive Adjustable 0.596V 1 Output 2A SOT-23-6 Thin, TSOT-23-6; Manufacturer: Texas Instruments; Quiescent Current: 40uA; Voltage - Input (Min): 4.5V; Voltage - Input (Max): 28V; Frequency - Switching: 500kHz; Supplier 1: Digi-Key; Max Operating Temperature: 125°C; Manufacturer Part Number: TPS54202HDDCR; Min Operating Temperature: -40°C; Supplier Part Number 1: 296-44396-1-ND; Voltage - Output (Min/Fixed): 0.596V; Voltage - Output (Max): 28V; Current - Output: 2A
footprint SOT23-6 (SOT23, 0.95mm pitch, 6 pins)
pins: 1 GND (power), 2 SW (out), 3 VIN (power), 4 FB (in), 5 EN (in), 6 BOOT (power)

## U_TPS62160
designator U?, comment TPS62160DSGR
Buck Switching Regulator IC Positive Adjustable 0.9V 1 Output 1A; Supplier 1: Digi-Key; Supplier Part Number 1: 296-29895-6-ND
footprint WFDFN-8-EP (8 pin 0.5mm pitch WSON package, 2x2mm)
pins: 1 PGND (power), 2 VIN (in), 3 EN (in), 4 AGND (power), 5 FB (in), 6 VOS (in), 7 SW (out), 8 PG (oc), EP AGND (power)

## U_TPS62172
designator U?, comment TPS62172DSGR
Buck Switching Regulator IC Positive Fixed 3.3V 1 Output 500mA 8-WFDFN Exposed Pad; Manufacturer: Texas Instruments; Switching Frequency: 2.25MHz; Quiescent Current: 17uA; Min Input Voltage: 3V; Max Input Voltage: 17V; Supplier 1: Digi-Key; Supplier 2: Mouser; Supplier Part Number 1: 296-39449-1-ND; Supplier Part Number 2: 595-TPS62172DSGR; Manufacturer Part Number: TPS62172DSGR; Max Output Current: 500mA; Output Voltage: 3.3V; Output Type: Fixed
footprint WFDFN-8-EP (8 pin 0.5mm pitch WSON package, 2x2mm)
pins: 1 PGND (power), 2 VIN (in), 3 EN (in), 4 AGND (power), 5 FB (in), 6 VOS (in), 7 SW (out), 8 PG (oc), EP AGND (power)

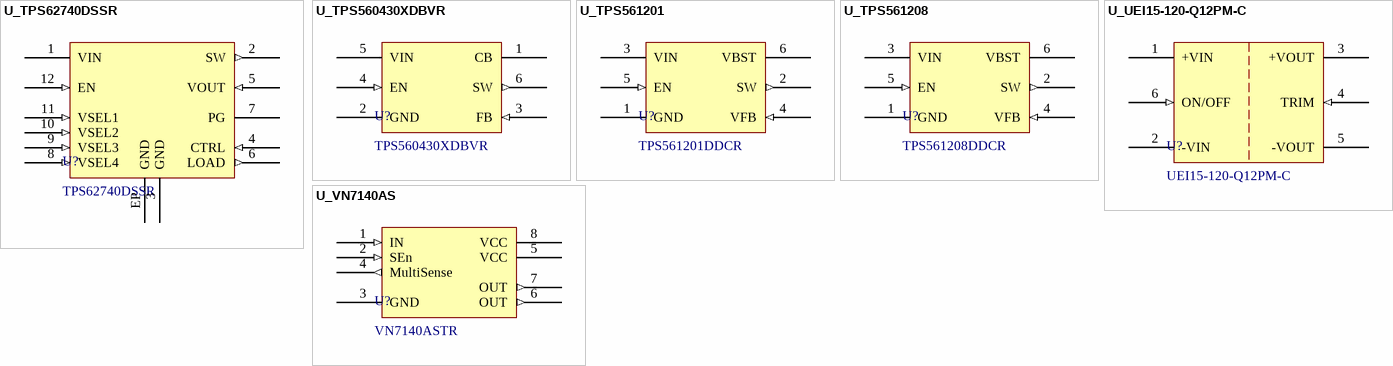
[diagram p5: symbols U_TPS62740DSSR to U_VN7140AS]

## U_TPS62740DSSR
designator U?, comment TPS62740DSSR
DCS-Control™ Converter, Bluetooth (BLT) Voltage Regulator IC 1 Output 12-WSON (3x2); Manufacturer: Texas Instruments; Efficiency: 90%; Max Input Voltage: 5.5V; Max Output Current: 300mA; Max Output Voltage: 3.3V; Min Input Voltage: 2.2V; Min Output Voltage: 1.8V; Quiescent Current: 300nA; Switching Frequency: 2MHz; Supplier 1: Digi-Key; Supplier 2: Mouser; Supplier Part Number 1: 296-39459-1-ND; Supplier Part Number 2: 595-TPS62740DSSR; Manufacturer Part Number: TPS62740DSSR; Max Operating Temperature: 85°C; Min Operating Temperature: -40°C
footprint WSON-12-EP_3x2mm (12 pin WSON Package, 0.5mm Pitch, 3x2mm)
pins: 1 VIN (power), 2 SW (out), 3 GND (power), 4 CTRL (in), 5 VOUT (in), 6 LOAD (out), 7 PG (oc), 8 VSEL4 (in), 9 VSEL3 (in), 10 VSEL2 (in), 11 VSEL1 (in), 12 EN (in), EP GND (power)

## U_TPS560430XDBVR
designator U?, comment TPS560430XDBVR
Buck Switching Regulator IC Positive PFM 1V 1 Output 600mA SOT-23-6; Manufacturer: Texas Instruments; Quiescent Current: 40uA; Voltage - Input (Min): 4V; Voltage - Input (Max): 36V; Voltage - Output (Max): 34.2V; Frequency - Switching: 1.1MHz; Max Operating Temperature: 125°C; Manufacturer Part Number: TPS560430XDBVR; Min Operating Temperature: -40°C; Voltage - Output (Min/Fixed): 1V; Current - Output: 600mA; Supplier 1: Digi-Key; Supplier Part Number 1: 296-50420-1-ND
footprint SOT23-6 (SOT23, 0.95mm pitch, 6 pins)
pins: 1 CB (power), 2 GND (power), 3 FB (in), 4 EN (in), 5 VIN (power), 6 SW (out)

## U_TPS561201
designator U?, comment TPS561201DDCR
Buck Switching Regulator IC Positive Adjustable 0.76V 1 Output 1A SOT-23-6 Thin, TSOT-23-6 (Pulse-Skip Mode); Manufacturer: Texas Instruments; Frequency - Switching: 580kHz; Manufacturer Part Number: TPS561201DDCR; Current - Output: 1A; Max Operating Temperature: 85°C; Min Operating Temperature: -40°C; Supplier 1: Digi-Key; Supplier 2: Mouser; Supplier Part Number 1: 296-47885-1-ND; Supplier Part Number 2: 595-TPS561201DDCR
footprint SOT23-6 (SOT23, 0.95mm pitch, 6 pins)
pins: 1 GND (power), 2 SW (out), 3 VIN (power), 4 VFB (in), 5 EN (in), 6 VBST (power)

## U_TPS561208
designator U?, comment TPS561208DDCR
Buck Switching Regulator IC Positive Adjustable 0.76V 1 Output 1A SOT-23-6 Thin, TSOT-23-6 (Continuous Current Mode); Manufacturer: Texas Instruments; Frequency - Switching: 580kHz; Manufacturer Part Number: TPS561208DDCR; Current - Output: 1A; Supplier 1: Digi-Key; Supplier 2: Mouser; Supplier Part Number 1: 296-47886-1-ND; Supplier Part Number 2: 595-TPS561208DDCR; Max Operating Temperature: 85°C; Min Operating Temperature: -40°C
footprint SOT23-6 (SOT23, 0.95mm pitch, 6 pins)
pins: 1 GND (power), 2 SW (out), 3 VIN (power), 4 VFB (in), 5 EN (in), 6 VBST (power)

## U_UEI15-120-Q12PM-C
designator U?, comment UEI15-120-Q12PM-C
Isolated Module DC DC Converter 1 Output 12V 1.3A 9V - 36V Input; Manufacturer: Murata; Isolation Voltage: 2.25kV; Efficiency: 84.5%; Nominal Input Voltage: 24V; Output Power: 15.6W; Supplier 1: Arrow; Supplier Part Number 1: UEI15-120-Q12PM-C; Features: OCP,OTP,OVP,SCP,UVLO; Output Voltage: 12V; Min Operating Temperature: -40°C; Manufacturer Part Number: UEI15-120-Q12PM-C; Max Input Voltage: 36V; Output Current: 1.3A; Min Input Voltage: 9V; Max Operating Temperature: 85°C; Max Output Current: 1.3A
footprint SMD-6_DCDC_MODULE_UEI15 (Murata UEI15 Module 6-pin SMD)
pins: 1 +VIN (power), 2 -VIN (power), 3 +VOUT (power), 4 TRIM (in), 5 -VOUT (power), 6 ON/OFF (in)

## U_VN7140AS
designator U?, comment VN7140ASTR
IC DVR HIGH-SIDE 1CH 8SOIC; Supplier 1: Digi-Key; Supplier Part Number 1: 497-14302-1-ND
footprint SOIC-8 (SOIC, 8-Leads, Body 4.9x3.9mm (max), Pitch 1.27mm, IPC Medium Density)
pins: 1 IN (in), 2 SEn (in), 3 GND (power), 4 MultiSense (out), 5 VCC (power), 6 OUT (out), 7 OUT (out), 8 VCC (power)